# Altium schematic symbol library TLV75901PDRVR.SchLib: 1 symbol
Pins are listed as number, name and electrical type; pins without a type are passive.

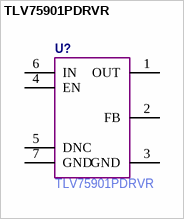
[diagram p0: symbol TLV75901PDRVR]

## TLV75901PDRVR
designator U?  Manufacturer Part Number: TLV75901PDRVR  (hidden comment: *)
pins: 1 OUT, 2 FB, 3 GND, 4 EN, 5 DNC, 6 IN, 7 GND